# Altium footprint library Passive PCB.PcbLib: 33 footprints (part 3 of 3)
Each footprint in its own frame and in the unit in brackets; x right, y up, seen from the top. Pads: shape width x height; smd on the part's side, far side on the other; paste and mask are expansions set on the pad; w line width, h text height; cw(c..) or ccw(c..) is an arc to the next point about the centre after c.
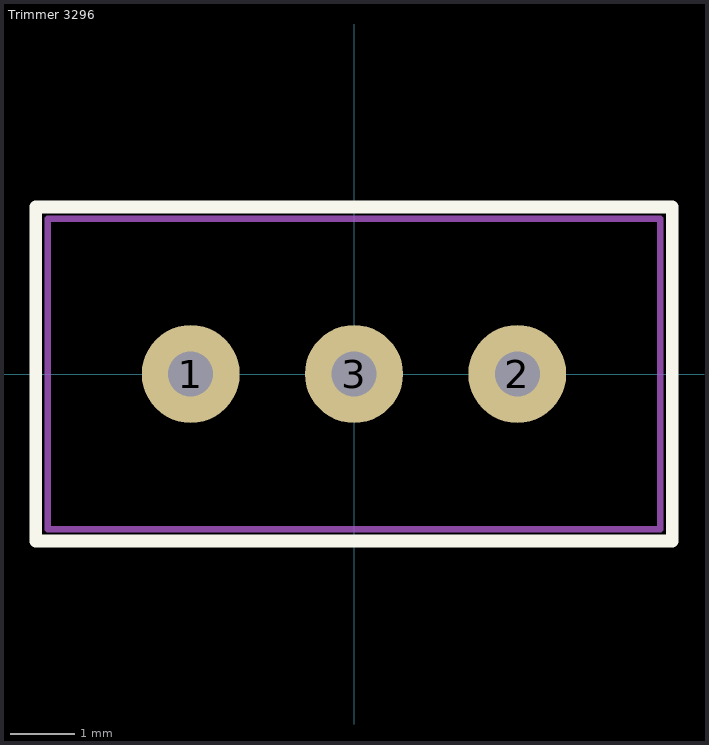
[diagram p2: the footprint, top view; thin cyan lines are the x and y axes]

## Trimmer 3296 [mil]
pads (3):
  round 60 hole 27.56: 1(-100,0) 2(100,0) 3(0,0)
Top Overlay:
  lines w7.87: -194.88,-102.36 194.88,-102.36 194.88,102.36 -194.88,102.36 -194.88,-102.36
Top Assy:
  lines w3.94: -187.59,-95.07 -187.59,95.08 187.6,95.08 187.6,-95.07 -187.59,-95.07
Border:
  lines w3.94: -194.88,-102.36 194.88,-102.36 194.88,102.36 -194.88,102.36 -194.88,-102.36
3D body "User Library-3296_Bourns.step": height 455.12, standoff -299.61, extent -187.59,-95.07 187.6,95.08